# Altium schematic symbol library SCH - DIGITAL ISOLATOR - TI ISO154X.SCHLIB: 1 symbol
Pins are listed as number, name and electrical type; pins without a type are passive.

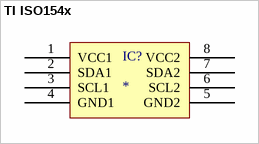
[diagram p0: symbol TI ISO154x]

## TI ISO154x
designator IC?
pins: 1 VCC1, 2 SDA1, 3 SCL1, 4 GND1, 5 GND2, 6 SCL2, 7 SDA2, 8 VCC2